# Altium footprint library TransistorThyristor_SMD.PcbLib: 50 footprints (part 3 of 4)
Each footprint in its own frame and in the unit in brackets; x right, y up, seen from the top. Pads: shape width x height; smd on the part's side, far side on the other; paste and mask are expansions set on the pad; w line width, h text height; cw(c..) or ccw(c..) is an arc to the next point about the centre after c.
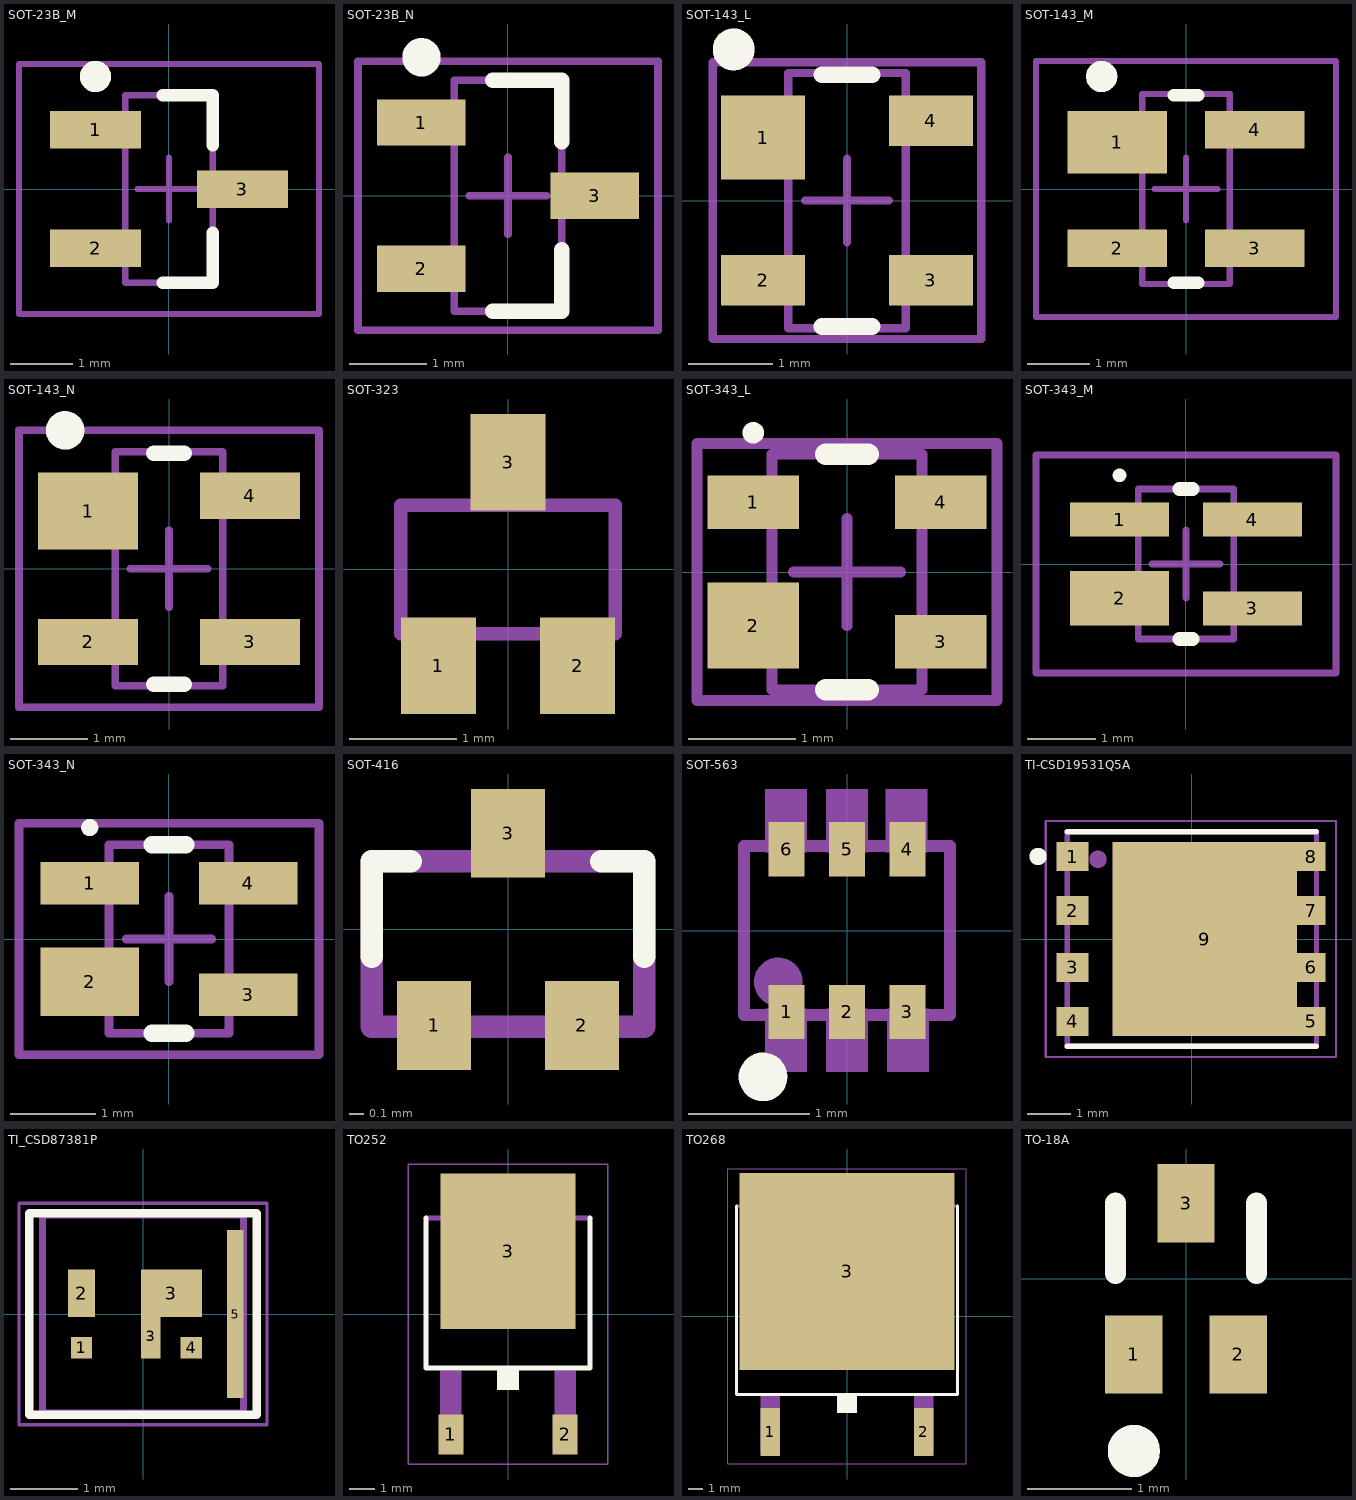
[diagram p2: the footprints below, top view; thin cyan lines are the x and y axes]

## SOT-23B_M [mm] "SOT23, 3-Leads, Body 2.9x1.3mm, Pitch 0.95mm, Lead Span 2.4mm, IPC Low Density"
height 1.14
pads (3):
  rect 1.45x0.6 smd: 1(-1.175,0.95) 2(-1.175,-0.95) 3(1.175,0)
Top Overlay:
  circle w0.25: c-1.175,1.8 r0.125
  lines w0.2: -0.1,-1.5 0.7,-1.5 0.7,-0.7 ; -0.1,1.5 0.7,1.5 0.7,0.7
Mechanical 13:
  lines w0.1: -0.7,-1.5 0.7,-1.5 0.7,1.5 -0.7,1.5 -0.7,-1.5
Mechanical 15:
  lines w0.1: -0.5,0 0.5,0 ; 0,-0.5 0,0.5 ; -2.4,-2 2.4,-2 2.4,2 -2.4,2 -2.4,-2
3D body "User Library-3-lead sot23-3.step": height 0.98, standoff -0.04, extent -1.25,-1.46 1.226,1.46

## SOT-23B_N [mm] "SOT23, 3-Leads, Body 2.9x1.3mm, Pitch 0.95mm, Lead Span 2.4mm, IPC Medium Density"
height 1.14
pads (3):
  rect 1.15x0.6 smd: 1(-1.125,0.95) 2(-1.125,-0.95) 3(1.125,0)
Top Overlay:
  circle w0.25: c-1.125,1.8 r0.125
  lines w0.2: -0.2,-1.5 0.7,-1.5 0.7,-0.7 ; -0.2,1.5 0.7,1.5 0.7,0.7
Mechanical 13:
  lines w0.1: -0.7,-1.5 0.7,-1.5 0.7,1.5 -0.7,1.5 -0.7,-1.5
Mechanical 15:
  lines w0.1: -0.5,0 0.5,0 ; 0,-0.5 0,0.5 ; -1.95,-1.75 1.95,-1.75 1.95,1.75 -1.95,1.75 -1.95,-1.75
3D body "User Library-3-lead sot23-3.step": height 0.98, standoff -0.04, extent -1.25,-1.46 1.226,1.46

## SOT-143_L [mm] "SOT143, 4-Leads, Body 2.9x1.3mm, Pitch 1.9mm, Lead Span 2.5mm, IPC High Density"
height 1.1
pads (4):
  rect 1x1 smd: 1(-1,0.75)
  rect 1x0.6 smd: 2(-1,-0.95) 3(1,-0.95) 4(1,0.95)
Top Overlay:
  circle w0.25: c-1.35,1.8 r0.125
  lines w0.2: -0.3,-1.5 0.3,-1.5 ; -0.3,1.5 0.3,1.5
Mechanical 13:
  lines w0.1: -0.7,-1.52 -0.7,1.52 0.7,1.52 0.7,-1.52 -0.7,-1.52
Mechanical 15:
  lines w0.1: -0.5,0 0.5,0 ; 0,-0.5 0,0.5 ; -1.6,-1.65 -1.6,1.65 1.6,1.65 1.6,-1.65 -1.6,-1.65
3D body "User Library-sot143.step": height 0.97, standoff -0.03, extent -1.21,-1.46 1.21,1.46

## SOT-143_M [mm] "SOT143, 4-Leads, Body 2.9x1.3mm, Pitch 1.9mm, Lead Span 2.5mm, IPC Low Density"
height 1.1
pads (4):
  rect 1.6x1 smd: 1(-1.1,0.75)
  rect 1.6x0.6 smd: 2(-1.1,-0.95) 3(1.1,-0.95) 4(1.1,0.95)
Top Overlay:
  circle w0.25: c-1.35,1.8 r0.125
  lines w0.2: -0.2,-1.5 0.2,-1.5 ; -0.2,1.5 0.2,1.5
Mechanical 13:
  lines w0.1: -0.7,-1.52 0.7,-1.52 0.7,1.52 -0.7,1.52 -0.7,-1.52
Mechanical 15:
  lines w0.1: -0.5,0 0.5,0 ; 0,-0.5 0,0.5 ; -2.4,-2.05 2.4,-2.05 2.4,2.05 -2.4,2.05 -2.4,-2.05
3D body "User Library-sot143.step": height 0.97, standoff -0.03, extent -1.21,-1.46 1.21,1.46

## SOT-143_N [mm] "SOT143, 4-Leads, Body 2.9x1.3mm, Pitch 1.9mm, Lead Span 2.5mm, IPC Medium Density"
height 1.1
pads (4):
  rect 1.3x1 smd: 1(-1.05,0.75)
  rect 1.3x0.6 smd: 2(-1.05,-0.95) 3(1.05,-0.95) 4(1.05,0.95)
Top Overlay:
  circle w0.25: c-1.35,1.8 r0.125
  lines w0.2: -0.2,-1.5 0.2,-1.5 ; -0.2,1.5 0.2,1.5
Mechanical 13:
  lines w0.1: -0.7,-1.52 0.7,-1.52 0.7,1.52 -0.7,1.52 -0.7,-1.52
Mechanical 15:
  lines w0.1: -0.5,0 0.5,0 ; 0,-0.5 0,0.5 ; -1.95,-1.8 1.95,-1.8 1.95,1.8 -1.95,1.8 -1.95,-1.8
3D body "User Library-sot143.step": height 0.97, standoff -0.03, extent -1.21,-1.46 1.21,1.46

## SOT-323 [mm]
pads (3):
  rect 0.7x0.9 smd: 1(-0.65,-0.9) 2(0.65,-0.9) 3(0,1)
Mechanical 16:
  lines w0.127: -0.75,-0.6 -0.75,-1 -0.55,-1 -0.55,-0.6 ; -0.75,-0.6 -1,-0.6 -1,0.6 -0.1,0.6 ; -0.75,-0.6 -0.55,-0.6 ; -0.55,-0.6 0.55,-0.6 ; -0.1,0.6 -0.1,1 0.1,1 0.1,0.6 ; -0.1,0.6 0.1,0.6 ; 0.1,0.6 1,0.6 1,-0.6 0.75,-0.6 ; 0.55,-0.6 0.55,-1 0.75,-1 0.75,-0.6 ; 0.55,-0.6 0.75,-0.6
3D body "User Library-sc70-3.step": height 0.97, standoff -0.03, extent -1.05,-1.15 1.05,1.15

## SOT-343_L [mm] "SOT343, 4-Leads, Body 2x1.3 mm, Pitch 1.3mm, Lead Span 2.1mm, IPC High Density"
height 1
pads (4):
  rect 0.85x0.5 smd: 1(-0.875,0.65) 3(0.875,-0.65) 4(0.875,0.65)
  rect 0.85x0.8 smd: 2(-0.875,-0.5)
Top Overlay:
  circle w0.1: c-0.875,1.3 r0.05
  lines w0.2: -0.2,-1.1 0.2,-1.1 ; -0.2,1.1 0.2,1.1
Mechanical 13:
  lines w0.1: -0.7,-1.1 -0.7,1.1 0.7,1.1 0.7,-1.1 -0.7,-1.1
Mechanical 15:
  lines w0.1: -0.5,0 0.5,0 ; 0,-0.5 0,0.5 ; -1.4,-1.2 -1.4,1.2 1.4,1.2 1.4,-1.2 -1.4,-1.2
3D body "User Library-sot343.step": height 0.97, standoff -0.03, extent -1.15,-1.05 1.15,1.05

## SOT-343_M [mm] "SOT343, 4-Leads, Body 2x1.3 mm, Pitch 1.3mm, Lead Span 2.1mm, IPC Low Density"
height 1
pads (4):
  rect 1.45x0.5 smd: 1(-0.975,0.65) 3(0.975,-0.65) 4(0.975,0.65)
  rect 1.45x0.8 smd: 2(-0.975,-0.5)
Top Overlay:
  circle w0.1: c-0.975,1.3 r0.05
  lines w0.2: -0.1,-1.1 0.1,-1.1 ; -0.1,1.1 0.1,1.1
Mechanical 13:
  lines w0.1: -0.7,-1.1 -0.7,1.1 0.7,1.1 0.7,-1.1 -0.7,-1.1
Mechanical 15:
  lines w0.1: -0.5,0 0.5,0 ; 0,-0.5 0,0.5 ; -2.2,-1.6 -2.2,1.6 2.2,1.6 2.2,-1.6 -2.2,-1.6
3D body "User Library-sot343.step": height 0.97, standoff -0.03, extent -1.15,-1.05 1.15,1.05

## SOT-343_N [mm] "SOT343, 4-Leads, Body 2x1.3 mm, Pitch 1.3mm, Lead Span 2.1mm, IPC Medium Density"
height 1
pads (4):
  rect 1.15x0.5 smd: 1(-0.925,0.65) 3(0.925,-0.65) 4(0.925,0.65)
  rect 1.15x0.8 smd: 2(-0.925,-0.5)
Top Overlay:
  circle w0.1: c-0.925,1.3 r0.05
  lines w0.2: -0.2,-1.1 0.2,-1.1 ; -0.2,1.1 0.2,1.1
Mechanical 13:
  lines w0.1: -0.7,-1.1 -0.7,1.1 0.7,1.1 0.7,-1.1 -0.7,-1.1
Mechanical 15:
  lines w0.1: -0.5,0 0.5,0 ; 0,-0.5 0,0.5 ; -1.75,-1.35 -1.75,1.35 1.75,1.35 1.75,-1.35 -1.75,-1.35
3D body "User Library-sot343.step": height 0.97, standoff -0.03, extent -1.15,-1.05 1.15,1.05

## SOT-416 [mm]
pads (3):
  rect 0.5x0.6 smd: 1(-0.5,-0.65) 2(0.5,-0.65) 3(0,0.65)
Top Overlay:
  lines w0.152: -0.923,-0.185 -0.923,0.461 -0.658,0.461 ; 0.633,0.461 0.923,0.461 0.923,-0.185
Top Solder:
  rectangle: -0.87,-1.08 0.87,0.74
Mechanical 16:
  lines w0.152: -0.923,-0.66 -0.923,0.461 0.923,0.461 0.923,-0.66 -0.923,-0.66
3D body "User Library-SOT-416.step": height 0.79, standoff -0.01, extent -0.8,-0.8 0.8,0.8

## SOT-563 [mm]
pads (6):
  rect 0.3x0.45 smd: 1(-0.5,-0.674) 2(0,-0.674) 3(0.5,-0.674) 4(0.5,0.674) 5(0,0.674) 6(-0.5,0.674)
Top Overlay:
  circle w0.203: c-0.696,-1.214 r0.1
Mechanical 16:
  circle w0.203: c-0.569,-0.426 r0.1
  rectangle: -0.68,-1.173 -0.33,-0.648
  rectangle: -0.175,-1.173 0.175,-0.648
  rectangle: 0.33,-1.173 0.68,-0.648
  rectangle: 0.318,0.648 0.668,1.173
  rectangle: -0.175,0.648 0.175,1.173
  rectangle: -0.68,0.648 -0.33,1.173
  lines w0.102: -0.853,-0.7 -0.853,0.7 0.853,0.7 0.853,-0.7 -0.853,-0.7
3D body "User Library-SOT-563.step": height 0.56, standoff -0.03, extent -0.8,-0.813 0.8,0.813

## TI-CSD19531Q5A [mm] "PowerPAK® 1212-8"
pads (9):
  rect 0.75x0.675 smd paste-1: 1(-2.776,1.917) 2(-2.776,0.66) 3(-2.776,-0.66) 4(-2.776,-1.917)
  rect 0.655x0.675 smd paste-1: 5(2.776,-1.917) 6(2.776,-0.66) 7(2.776,0.66) 8(2.776,1.917)
  rect 4.295x4.51 smd paste-3: 9(0.301,0)
Top Overlay:
  circle w0.3: c-3.578,1.921 r0.05
  lines w0.127: -2.9,-2.5 2.9,-2.5 ; -2.9,2.5 2.9,2.5
Top Paste:
  region: -2.526,-2.171 -3.031,-2.171 -3.031,-1.667 -2.526,-1.667
  region: -2.526,-0.91 -3.026,-0.91 -3.026,-0.41 -2.526,-0.41
  region: -2.526,0.41 -3.027,0.41 -3.027,0.91 -2.526,0.91
  region: -2.526,1.67 -3.03,1.67 -3.03,2.167 -2.526,2.167
  region: 3.026,-2.172 2.531,-2.172 2.531,-1.667 3.026,-1.667
  region: 3.026,-0.91 2.528,-0.91 2.528,-0.41 3.026,-0.41
  region: 3.026,0.41 2.528,0.41 2.528,0.91 3.026,0.91
  region: 3.026,1.668 2.527,1.668 2.527,2.167 3.026,2.167
  region: 1.911,-1.882 0.327,-1.882 0.327,-0.31 1.911,-0.31
  region: -0.174,-1.883 -1.411,-1.883 -1.411,-0.31 -0.174,-0.31
  region: 1.911,0.31 0.327,0.31 0.327,1.88 1.911,1.88
  region: -0.174,0.31 -1.409,0.31 -1.409,1.88 -0.174,1.88
Mechanical 13:
  circle w0.3: c-2.186,1.855 r0.05
  lines w0.127: -2.9,-2.5 2.9,-2.5 2.9,2.5 -2.9,2.5 -2.9,-2.5
Mechanical 15:
  lines w0.05: -3.401,-2.75 3.354,-2.75 3.354,2.75 -3.401,2.75 -3.401,-2.75
3D body "CSD19531Q5A.STEP": height 1.1, standoff 0, extent -3,-2.45 3,2.45

## TI_CSD87381P [mm]
pads (6):
  rect 0.32x0.32 smd: 1(-0.918,-0.503) 4(0.719,-0.503)
  rect 0.401x0.706 smd: 2(-0.917,0.31)
  rect 0.292x0.663 smd: 3(0.113,-0.332)
  rect 0.912x0.706 smd: 3(0.423,0.31)
  rect 0.25x2.5 smd: 5(1.375,0)
Top Overlay:
  lines w0.127: -1.7,-1.5 1.7,-1.5 1.7,1.5 -1.7,1.5 -1.7,-1.5
Mechanical 1:
  lines w0.1: -1.5,-1.475 -1.5,1.475 1.5,1.475 1.5,-1.475 -1.5,-1.475
Mechanical 15:
  lines w0.05: -1.85,-1.65 -1.85,1.65 1.85,1.65 1.85,-1.65 -1.85,-1.65
3D body "User Library-R-PTAB-X5.STEP": height 0.48, standoff 0, extent -1.5,-1.475 1.5,1.475

## TO252 [mm]
pads (3):
  rect 1x1.6 smd: 1(-2.28,-4.8) 2(2.28,-4.8)
  rect 5.4x6.2 smd: 3(0,2.5)
Top Overlay:
  rectangle: -0.432,-3.023 0.432,-2.261
  lines w0.203: -3.277,3.835 -3.277,-2.159 3.277,-2.159 3.277,3.835
Mechanical 16:
  rectangle: -2.718,-5.156 -1.854,-2.261
  rectangle: 1.854,-5.156 2.718,-2.261
  region: 0,0 0.254,0 0.254,0.254 0,0.254
  lines w0.203: -3.277,3.835 3.277,3.835 ; -2.565,3.937 -2.565,4.648 -2.108,5.105 2.108,5.105 2.565,4.648 2.565,3.937 -2.565,3.937
Mechanical 27:
  lines w0.051: -3.973,-5.983 3.973,-5.983 3.973,5.983 -3.973,5.983 -3.973,-5.983
3D body "User Library-DPAK-TO2521.step": height 2.29, standoff -0.13, extent -3.295,-4.947 3.245,4.991

## TO268 [mm]
pads (3):
  rect 1.4x3.4 smd: 1(-5.45,-8.2) 2(5.45,-8.2)
  rect 15.24x13.991 smd: 3(0,3.2)
Top Overlay:
  rectangle: -0.72,-6.85 0.72,-5.55
  lines w0.203: -7.857,7.835 -7.857,-5.549 7.857,-5.549 7.857,7.835
Top Solder:
  rectangle: -7,-3.7 7,10.1
Mechanical 16:
  rectangle: -6.15,-9.55 -4.75,-6.85
  rectangle: -6.15,-6.85 -4.75,-5.55
  rectangle: 4.75,-6.85 6.15,-5.55
  rectangle: 4.75,-9.55 6.15,-6.85
  region: 0,0 0.254,0 0.254,0.254 0,0.254
  lines w0.203: -7.858,7.835 7.858,7.835 ; -6.565,7.937 -6.565,8.978 -6.108,9.436 6.108,9.436 6.565,8.978 6.565,7.937 -6.565,7.937
Mechanical 27:
  lines w0.051: -8.473,-10.483 8.473,-10.483 8.473,10.483 -8.473,10.483 -8.473,-10.483
3D body "User Library-TO545P1905X510_HS-3-TO268AA.step": height 5.1, standoff 0, extent -8.026,-9.449 7.976,9.601

## TO-18A [mm] "SC-89; 3 Flat Leads; Body 1.6 x 1.6 x 0.7 mm, inc leads (LxWxH typ)"
height 0.8
pads (3):
  rect 0.55x0.75 smd: 1(-0.5,-0.725) 2(0.5,-0.725) 3(0,0.725)
Top Overlay:
  circle w0.25: c-0.5,-1.65 r0.125
  lines w0.2: -0.676,0.05 -0.676,0.725 ; 0.675,0.05 0.675,0.725